# Altium footprint library PCB - DIODES - Everlight PD15-22.PCBLIB: 1 footprints
Each footprint in its own frame and in the unit in brackets; x right, y up, seen from the top. Pads: shape width x height; smd on the part's side, far side on the other; paste and mask are expansions set on the pad; w line width, h text height; cw(c..) or ccw(c..) is an arc to the next point about the centre after c.
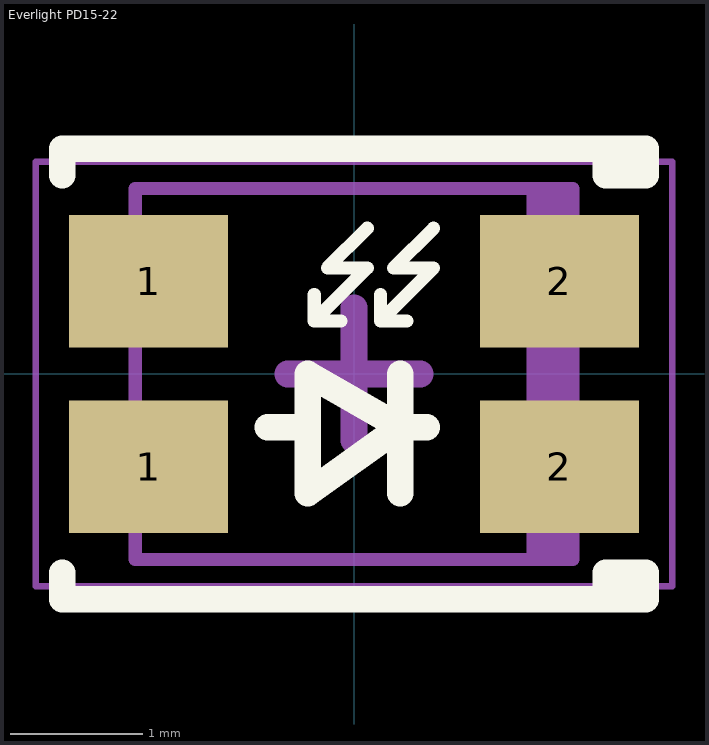
[diagram p0: the footprint, top view; thin cyan lines are the x and y axes]

## Everlight PD15-22 [mm] "4-SMD, 4-Leads, Body 3.3x2.8mm, IPC Medium Density"
height 1.1
pads (4):
  rect 1.2x1 smd: 1(-1.55,-0.7) 1(-1.55,0.7) 2(1.55,-0.7) 2(1.55,0.7)
Top Overlay:
  region: 2.2,-1.5 1.9,-1.5 1.9,-1.8 2.2,-1.8
  region: 2.2,1.8 1.9,1.8 1.9,1.5 2.2,1.5
  lines w0.1: -0.3,0.6 -0.3,0.4 ; -0.1,0.4 -0.3,0.4 ; 0.1,1.1 -0.2,0.8 0.1,0.8 -0.3,0.4 ; 0.2,0.6 0.2,0.4 ; 0.4,0.4 0.2,0.4 ; 0.6,1.1 0.3,0.8 0.6,0.8 0.2,0.4
  lines w0.2: -2.2,-1.5 -2.2,-1.7 2.2,-1.7 2.2,-1.5 1.9,-1.5 1.9,-1.7 ; -2.2,1.5 -2.2,1.7 2.2,1.7 2.2,1.5 1.9,1.5 1.9,1.7 ; -0.65,-0.4 -0.35,-0.4 ; 0.35,-0.9 0.35,0 ; 0.55,-0.4 0.35,-0.4 ; 0.35,-0.4 -0.35,0 -0.35,-0.9 0.35,-0.4
Mechanical 13:
  region: 1.65,1.4 1.3,1.4 1.3,-1.4 1.65,-1.4
  lines w0.1: 1.65,-1.175 1.65,-1.4 ; 1.65,-1.4 1.65,1.4 -1.65,1.4 -1.65,-1.4 1.65,-1.4
Mechanical 15:
  lines w0.05: -2.4,-1.6 -2.4,1.6 2.4,1.6 2.4,-1.6 -2.4,-1.6
2:
  lines w0.2: -0.5,0 0.5,0 ; 0,-0.5 0,0.5
3D body "Everlight - 4SMD 2.8 x 3.3mm.step": height 1.1, standoff 0, extent -1.65,-1.4 1.65,1.4